# Altium footprint library IS-IG-1-G1.PcbLib: 1 footprints
Each footprint in its own frame and in the unit in brackets; x right, y up, seen from the top. Pads: shape width x height; smd on the part's side, far side on the other; paste and mask are expansions set on the pad; w line width, h text height; cw(c..) or ccw(c..) is an arc to the next point about the centre after c.
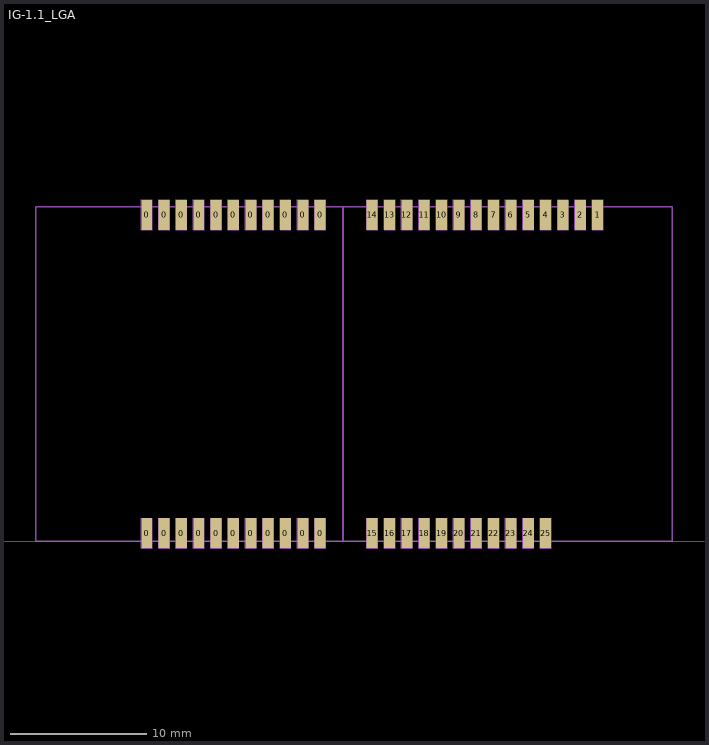
[diagram p0: the footprint, top view; thin cyan lines are the x and y axes]

## IG-1.1_LGA [mm] "IMX multi-frequency RTK-GNSS Module"
height 5.93
pads (47):
  rect 0.8x2.2 smd paste-2.54: 0(26.723,23.9) 0(26.723,0.6) 0(27.993,23.9) 0(27.993,0.6) 0(29.263,23.9) 0(29.263,0.6) 0(30.533,23.9) 0(30.533,0.6) 0(31.803,23.9) 0(31.803,0.6) 0(33.073,23.9) 0(33.073,0.6) 0(34.343,23.9) 0(34.343,0.6) 0(35.613,23.9) 0(35.613,0.6) 0(36.883,23.9) 0(36.883,0.6) 0(38.153,23.9) 0(38.153,0.6) 0(39.423,23.9) 0(39.423,0.6) 1(59.743,23.9) 2(58.473,23.9) 3(57.203,23.9) 4(55.933,23.9) 5(54.663,23.9) 6(53.393,23.9) 7(52.123,23.9) 8(50.853,23.9) 9(49.583,23.9) 10(48.313,23.9) 11(47.043,23.9) 12(45.773,23.9) 13(44.503,23.9) 14(43.233,23.9) 15(43.233,0.6) 16(44.503,0.6) 17(45.773,0.6) 18(47.043,0.6) 19(48.313,0.6) 20(49.583,0.6) 21(50.853,0.6) 22(52.123,0.6) 23(53.393,0.6) 24(54.663,0.6) 25(55.933,0.6)
Mechanical 1:
  drawing of 196 lines, arcs and shapes, not listed
Mechanical 13:
  lines w0.127: 41.093,0 41.093,24.5 ; 18.6,0 65.2,0 65.2,24.5 18.6,24.5 18.6,0
Mechanical 16:
  drawing of 294 lines, arcs and shapes, not listed
3D body "IG-1.1.2-G1.step": height 5.95, standoff 0.01, extent 18.6,-1.188 65.2,24.5